# Altium integrated library TS1117BCW33_RPG.IntLib: 1 symbol
Pins are listed as number, name and electrical type; pins without a type are passive.

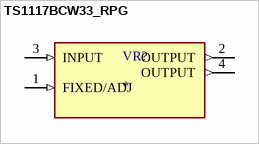
[diagram p0: symbol TS1117BCW33_RPG]

## TS1117BCW33_RPG
designator VR?
MF: {'manufacturer': u'Taiwan Semiconductor'}; MP: TS1117BCW33_RPG; Package: None; Price: None; Value: *; Availability: Unavailable
footprint VREG_TS1117BCW33_RPG
pins: 1 FIXED/ADJ (in), 2 OUTPUT (out), 3 INPUT (in), 4 OUTPUT (out)